# Altium footprint library CUI-DS04-254-SMT-Series.PcbLib: 1 footprints
Each footprint in its own frame and in the unit in brackets; x right, y up, seen from the top. Pads: shape width x height; smd on the part's side, far side on the other; paste and mask are expansions set on the pad; w line width, h text height; cw(c..) or ccw(c..) is an arc to the next point about the centre after c.
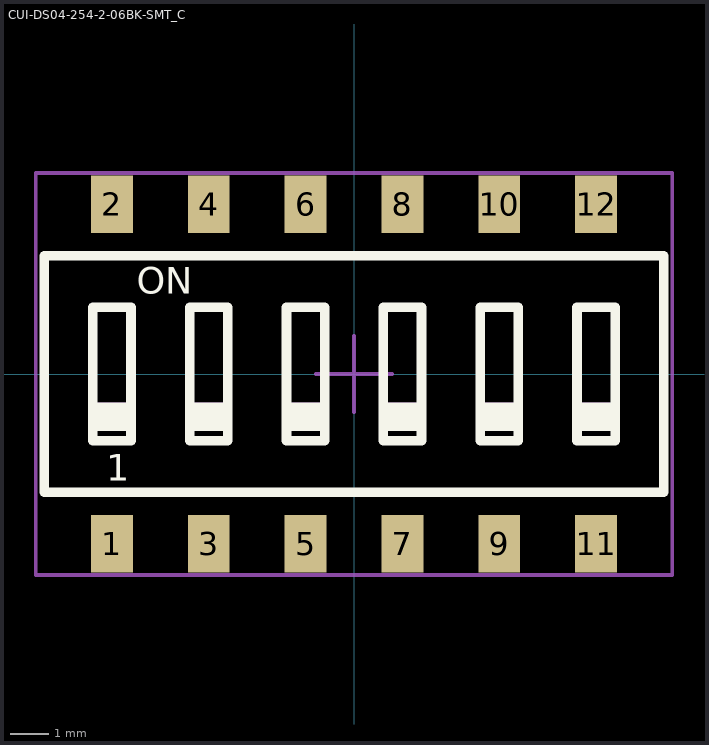
[diagram p0: the footprint, top view; thin cyan lines are the x and y axes]

## CUI-DS04-254-2-06BK-SMT_C [mm] "Dip Switch SPST 6 Position Surface Mount Slide (Standard) Actuator 25mA 24VDC"
height 4
pads (12):
  rect 1.1x1.5 smd: 1(-6.35,-4.45) 2(-6.35,4.45) 3(-3.81,-4.45) 4(-3.81,4.45) 5(-1.27,-4.45) 6(-1.27,4.45) 7(1.27,-4.45) 8(1.27,4.45) 9(3.81,-4.45) 10(3.81,4.45) 11(6.35,-4.45) 12(6.35,4.45)
Top Overlay:
  rectangle: -6.85,-1.5 -5.85,-0.75
  rectangle: -4.31,-1.5 -3.31,-0.75
  rectangle: -1.77,-1.5 -0.77,-0.75
  rectangle: 0.77,-1.5 1.77,-0.75
  rectangle: 3.31,-1.5 4.31,-0.75
  rectangle: 5.85,-1.5 6.85,-0.75
  lines w0.254: -8.12,-3.1 8.12,-3.1 8.12,3.1 -8.12,3.1 -8.12,-3.1 ; -6.85,-1.75 -6.85,1.75 -5.85,1.75 -5.85,-1.75 -6.85,-1.75 ; -4.31,-1.75 -4.31,1.75 -3.31,1.75 -3.31,-1.75 -4.31,-1.75 ; -1.77,-1.75 -1.77,1.75 -0.77,1.75 -0.77,-1.75 -1.77,-1.75 ; 0.77,-1.75 0.77,1.75 1.77,1.75 1.77,-1.75 0.77,-1.75 ; 3.31,-1.75 3.31,1.75 4.31,1.75 4.31,-1.75 3.31,-1.75 ; 5.85,-1.75 5.85,1.75 6.85,1.75 6.85,-1.75 5.85,-1.75
  text ".Name6" at 6.6,5.7 h0.7
  text ".Name5" at 4,5.7 h0.7
  text ".Name4" at 1.5,5.7 h0.7
  text ".Name3" at -1,5.7 h0.7
  text ".Name2" at -3.5,5.7 h0.7
  text ".Name1" at -6.1,5.7 h0.7
  text "ON" at -5.7,2.1 h0.7
  text "1" at -6.5,-2.8 h0.7
Top Assembly:
  rectangle: -6.85,-1.5 -5.85,-0.75
  rectangle: -4.31,-1.5 -3.31,-0.75
  rectangle: -1.77,-1.5 -0.77,-0.75
  rectangle: 0.77,-1.5 1.77,-0.75
  rectangle: 3.31,-1.5 4.31,-0.75
  rectangle: 5.85,-1.5 6.85,-0.75
  lines w0.2: -8.12,-3.1 8.12,-3.1 8.12,3.1 -8.12,3.1 -8.12,-3.1 ; -6.85,-1.75 -5.85,-1.75 -5.85,1.75 -6.85,1.75 -6.85,-1.75 ; -4.31,-1.75 -3.31,-1.75 -3.31,1.75 -4.31,1.75 -4.31,-1.75 ; -1.77,-1.75 -0.77,-1.75 -0.77,1.75 -1.77,1.75 -1.77,-1.75 ; 0.77,-1.75 1.77,-1.75 1.77,1.75 0.77,1.75 0.77,-1.75 ; 3.31,-1.75 4.31,-1.75 4.31,1.75 3.31,1.75 3.31,-1.75 ; 5.85,-1.75 6.85,-1.75 6.85,1.75 5.85,1.75 5.85,-1.75
  text ".Name1" at -6.1,3.7 h0.7
  text ".Name2" at -3.5,3.7 h0.7
  text ".Name3" at -1,3.7 h0.7
  text ".Name4" at 1.5,3.7 h0.7
  text ".Name5" at 4,3.7 h0.7
  text ".Name6" at 6.6,3.7 h0.7
  text "1" at -6.5,-2.8 h0.7
  text "ON" at -5.7,2.1 h0.7
Top Designator:
  text ".Designator" at -7.8,-4.467 h1
Top Courtyard (Mech15):
  lines w0.1: -1,0 1,0 ; 0,-1 0,1 ; -8.345,-5.275 8.345,-5.275 8.345,5.275 -8.345,5.275 -8.345,-5.275
3D body "CUI_DEVICES_DS04-254-2-06BK-SMT.step": height 3.99, standoff -0.01, extent -8.117,-4.947 8.123,4.953